# Altium footprint library Toshiba.PcbLib: 4 footprints
Each footprint in its own frame and in the unit in brackets; x right, y up, seen from the top. Pads: shape width x height; smd on the part's side, far side on the other; paste and mask are expansions set on the pad; w line width, h text height; cw(c..) or ccw(c..) is an arc to the next point about the centre after c.
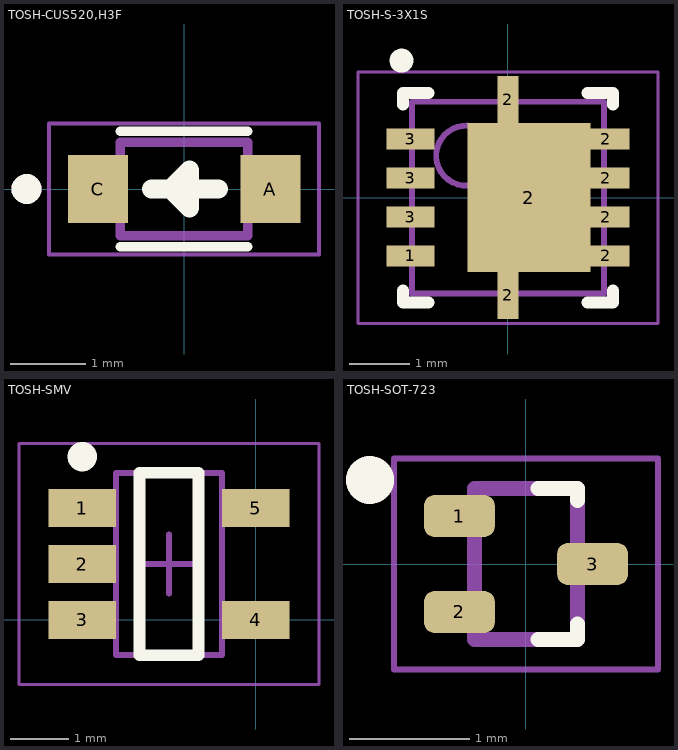
[diagram p0: the footprints below, top view; thin cyan lines are the x and y axes]

## TOSH-CUS520,H3F [mm]
pads (2):
  rect 0.8x0.9 smd: A(1.15,0) C(-1.15,0)
Top Overlay:
  circle w0.2: c-2.1,0 r0.1
  lines w0.127: -0.85,-0.77 0.85,-0.77 ; -0.85,0.77 0.85,0.77
  lines w0.254: -0.432,0 -0.178,0 ; 0.457,0 -0.178,0 ; -0.178,0 0.076,-0.254 0.076,0.254 -0.178,0
Mechanical 13:
  circle w0.2: c-2.1,0 r0.1
  lines w0.127: -0.85,-0.625 -0.85,0.625 0.85,0.625 0.85,-0.625 -0.85,-0.625
Mechanical 15:
  lines w0.05: -1.8,-0.875 1.8,-0.875 1.8,0.875 -1.8,0.875 -1.8,-0.875
3D body "CUS520,H3F.STEP": height 1.11, standoff -0.04, extent -1.25,-0.625 1.25,0.625

## TOSH-S-3X1S [mm] "SON, 8-Leads, Body 3.10x3.10mm, Pitch 0.65mm, Thermal Pad 2.49x2.06mm, IPC Low Density"
height 0.9
pads (11):
  rect 0.8x0.35 smd: 1(-1.63,-0.975) 2(1.63,-0.975) 2(1.63,-0.325) 2(1.63,0.325) 2(1.63,0.975) 3(-1.63,-0.325) 3(-1.63,0.325) 3(-1.63,0.975)
  rect 0.35x0.8 smd: 2(0,-1.63) 2(0,1.63)
  rect 2.06x2.49 smd: 2(0.35,0)
Top Overlay:
  circle w0.2: c-1.778,2.286 r0.1
  lines w0.2: -1.75,-1.55 -1.75,-1.75 -1.33,-1.75 ; -1.75,1.55 -1.75,1.75 -1.33,1.75 ; 1.33,-1.75 1.75,-1.75 1.75,-1.55 ; 1.33,1.75 1.75,1.75 1.75,1.55
Mechanical 13:
  circle w0.1: c-0.7,0.7 r0.5
  lines w0.1: -1.6,-1.6 -1.6,1.6 1.6,1.6 1.6,-1.6 -1.6,-1.6
Mechanical 15:
  lines w0.05: -2.505,-2.1 -2.505,2.1 2.505,2.1 2.505,-2.1 -2.505,-2.1
  lines w0.1: -0.5,0 0.5,0 ; 0,-0.5 0,0.5
3D body "TOSH-S-3X1S.step": height 0.9, standoff 0, extent -1.601,-1.6 1.601,1.6

## TOSH-SMV [mm] "SOT23, 5-Leads, Body 2.90x2.75mm, Pitch 0.95mm, IPC Low Density"
height 1.3
pads (5):
  rect 1.15x0.65 smd: 1(-2.95,1.9) 2(-2.95,0.95) 3(-2.95,0) 4(0,0) 5(0,1.9)
Top Overlay:
  circle w0.25: c-2.95,2.775 r0.125
  lines w0.2: -1.975,-0.6 -1.975,2.5 -0.975,2.5 -0.975,-0.6 -1.975,-0.6
Mechanical 13:
  lines w0.1: -2.375,-0.6 -0.575,-0.6 -0.575,2.5 -2.375,2.5 -2.375,-0.6
Mechanical 15:
  lines w0.05: -4.025,-1.1 1.075,-1.1 1.075,3 -4.025,3 -4.025,-1.1
  lines w0.1: -1.975,0.95 -0.975,0.95 ; -1.475,0.45 -1.475,1.45
3D body "TOSH-SMV.step": height 1.3, standoff 0, extent -2.975,-0.6 0.025,2.5

## TOSH-SOT-723 [mm]
pads (3):
  rrect50% 0.59x0.35 smd: 1(-0.555,0.4) 2(-0.555,-0.4) 3(0.555,0)
Top Overlay:
  circle w0.2: c-1.3,0.7 r0.1
  lines w0.127: 0.1,-0.63 0.43,-0.63 0.43,-0.5 ; 0.1,0.63 0.43,0.63 0.43,0.53
Mechanical 13:
  circle w0.2: c-1.3,0.7 r0.1
  lines w0.127: -0.43,-0.63 0.43,-0.63 0.43,0.63 -0.43,0.63 -0.43,-0.63
Mechanical 15:
  lines w0.05: -1.1,-0.88 1.1,-0.88 1.1,0.88 -1.1,0.88 -1.1,-0.88
3D body "User Library-SOT-723-3.step": height 0.46, standoff 0.01, extent -0.6,-0.625 0.6,0.625